# Altium schematic symbol library WR-FPC_1.00mm.SchLib: 105 symbols (part 1 of 2)
Pins are listed as number, name and electrical type; pins without a type are passive.

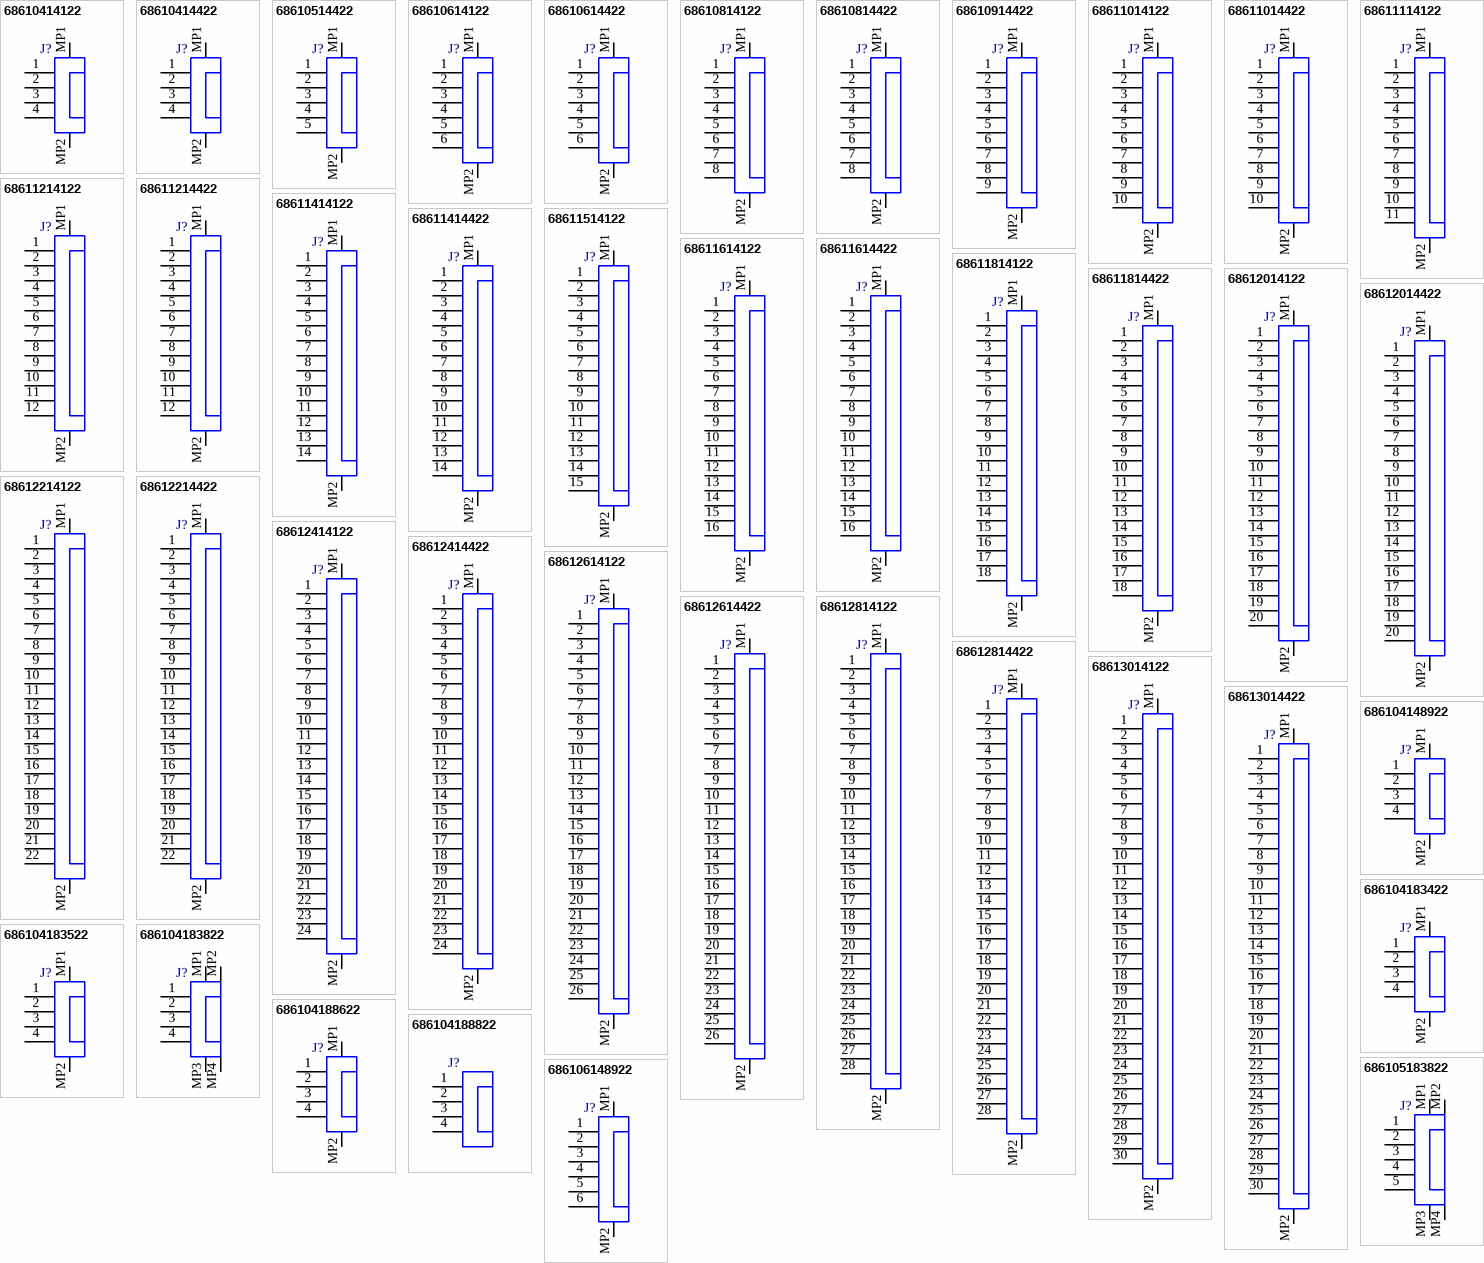
[diagram p0: symbols 68610414122 to 686106148922]

## 68610414122
designator J?
WR-FPC SMT ZIF Horizontal Top Contact, pitch 1mm, 4p; Part Number: 68610414122; Contact Resistance: 20mOhm; Pin Number: 4; Working Voltage: 125VAC; Rated Current: 1A; ComponentLink1Description: Manufacturer; ComponentLink1URL: http://www.we-online.de; ComponentLink2Description: Datasheet; ComponentLink2URL: https://katalog.we-online.com/em/datasheet/68610414122.pdf; Packaging: Tape and Reel; Pitch: 1mm; Published Date: November 2019; Mounting Technology: SMT; Operating Temperature: -25 to +85degC; Length: 11mm; Type: Horizontal; Publisher: Wurth Elektronik
footprint 68610414122
pins: 1, 2, 3, 4, MP1, MP2

## 68610414422
designator J?
WR-FPC SMT ZIF Horizontal Bottom Contact, pitch 1mm, 4p; Part Number: 68610414422; Contact Resistance: 20mOhm; Pin Number: 4; Working Voltage: 125VAC; Rated Current: 1A; ComponentLink1Description: Manufacturer; ComponentLink1URL: http://www.we-online.de; ComponentLink2Description: Datasheet; ComponentLink2URL: https://katalog.we-online.com/em/datasheet/68610414422.pdf; Packaging: Tape and Reel; Pitch: 1mm; Published Date: November 2019; Mounting Technology: SMT; Operating Temperature: -25 to +85degC; Length: 11mm; Type: Horizontal; Publisher: Wurth Elektronik
footprint 68610414422
pins: 1, 2, 3, 4, MP1, MP2

## 68610514422
designator J?
WR-FPC SMT ZIF Horizontal Bottom Contact, pitch 1mm, 5p; Part Number: 68610514422; Contact Resistance: 20mOhm; Pin Number: 5; Working Voltage: 125VAC; Rated Current: 1A; ComponentLink1Description: Manufacturer; ComponentLink1URL: http://www.we-online.de; ComponentLink2Description: Datasheet; ComponentLink2URL: https://katalog.we-online.com/em/datasheet/68610514422.pdf; Packaging: Tape and Reel; Pitch: 1mm; Published Date: November 2019; Mounting Technology: SMT; Operating Temperature: -25 to +85degC; Length: 12mm; Type: Horizontal; Publisher: Wurth Elektronik
footprint 68610514422
pins: 1, 2, 3, 4, 5, MP1, MP2

## 68610614122
designator J?
WR-FPC SMT ZIF Horizontal Top Contact, pitch 1mm, 6p; Part Number: 68610614122; Contact Resistance: 20mOhm; Pin Number: 6; Working Voltage: 125VAC; Rated Current: 1A; ComponentLink1Description: Manufacturer; ComponentLink1URL: http://www.we-online.de; ComponentLink2Description: Datasheet; ComponentLink2URL: https://katalog.we-online.com/em/datasheet/68610614122.pdf; Packaging: Tape and Reel; Pitch: 1mm; Published Date: November 2019; Mounting Technology: SMT; Operating Temperature: -25 to +85degC; Length: 13mm; Type: Horizontal; Publisher: Wurth Elektronik
footprint 68610614122
pins: 1, 2, 3, 4, 5, 6, MP1, MP2

## 68610614422
designator J?
WR-FPC SMT ZIF Horizontal Bottom Contact, pitch 1mm, 6p; Part Number: 68610614422; Contact Resistance: 20mOhm; Pin Number: 6; Working Voltage: 125VAC; Rated Current: 1A; ComponentLink1Description: Manufacturer; ComponentLink1URL: http://www.we-online.de; ComponentLink2Description: Datasheet; ComponentLink2URL: https://katalog.we-online.com/em/datasheet/68610614422.pdf; Packaging: Tape and Reel; Pitch: 1mm; Published Date: November 2019; Mounting Technology: SMT; Operating Temperature: -25 to +85degC; Length: 13mm; Type: Horizontal; Publisher: Wurth Elektronik
footprint 68610614422
pins: 1, 2, 3, 4, 5, 6, MP1, MP2

## 68610814122
designator J?
WR-FPC SMT ZIF Horizontal Top Contact, pitch 1mm, 8p; Part Number: 68610814122; Contact Resistance: 20mOhm; Pin Number: 8; Working Voltage: 125VAC; Rated Current: 1A; ComponentLink1Description: Manufacturer; ComponentLink1URL: http://www.we-online.de; ComponentLink2Description: Datasheet; ComponentLink2URL: https://katalog.we-online.com/em/datasheet/68610814122.pdf; Packaging: Tape and Reel; Pitch: 1mm; Published Date: November 2019; Mounting Technology: SMT; Operating Temperature: -25 to +85degC; Length: 15mm; Type: Horizontal; Publisher: Wurth Elektronik
footprint 68610814122
pins: 1, 2, 3, 4, 5, 6, 7, 8, MP1, MP2

## 68610814422
designator J?
WR-FPC SMT ZIF Horizontal Bottom Contact, pitch 1mm, 8p; Part Number: 68610814422; Contact Resistance: 20mOhm; Pin Number: 8; Working Voltage: 125VAC; Rated Current: 1A; ComponentLink1Description: Manufacturer; ComponentLink1URL: http://www.we-online.de; ComponentLink2Description: Datasheet; ComponentLink2URL: https://katalog.we-online.com/em/datasheet/68610814422.pdf; Packaging: Tape and Reel; Pitch: 1mm; Published Date: November 2019; Mounting Technology: SMT; Operating Temperature: -25 to +85degC; Length: 15mm; Type: Horizontal; Publisher: Wurth Elektronik
footprint 68610814422
pins: 1, 2, 3, 4, 5, 6, 7, 8, MP1, MP2

## 68610914422
designator J?
WR-FPC SMT ZIF Horizontal Bottom Contact, pitch 1mm, 9p; Part Number: 68610914422; Contact Resistance: 20mOhm; Pin Number: 9; Working Voltage: 125VAC; Rated Current: 1A; ComponentLink1Description: Manufacturer; ComponentLink1URL: http://www.we-online.de; ComponentLink2Description: Datasheet; ComponentLink2URL: https://katalog.we-online.com/em/datasheet/68610914422.pdf; Packaging: Tape and Reel; Pitch: 1mm; Published Date: November 2019; Mounting Technology: SMT; Operating Temperature: -25 to +85degC; Length: 16mm; Type: Horizontal; Publisher: Wurth Elektronik
footprint 68610914422
pins: 1, 2, 3, 4, 5, 6, 7, 8, 9, MP1, MP2

## 68611014122
designator J?
WR-FPC SMT ZIF Horizontal Top Contact, pitch 1mm, 10p; Part Number: 68611014122; Contact Resistance: 20mOhm; Pin Number: 10; Working Voltage: 125VAC; Rated Current: 1A; ComponentLink1Description: Manufacturer; ComponentLink1URL: http://www.we-online.de; ComponentLink2Description: Datasheet; ComponentLink2URL: https://katalog.we-online.com/em/datasheet/68611014122.pdf; Packaging: Tape and Reel; Pitch: 1mm; Published Date: November 2019; Mounting Technology: SMT; Operating Temperature: -25 to +85degC; Length: 17mm; Type: Horizontal; Publisher: Wurth Elektronik
footprint 68611014122
pins: 1, 2, 3, 4, 5, 6, 7, 8, 9, 10, MP1, MP2

## 68611014422
designator J?
WR-FPC SMT ZIF Horizontal Bottom Contact, pitch 1mm, 10p; Part Number: 68611014422; Contact Resistance: 20mOhm; Pin Number: 10; Working Voltage: 125VAC; Rated Current: 1A; ComponentLink1Description: Manufacturer; ComponentLink1URL: http://www.we-online.de; ComponentLink2Description: Datasheet; ComponentLink2URL: https://katalog.we-online.com/em/datasheet/68611014422.pdf; Packaging: Tape and Reel; Pitch: 1mm; Published Date: November 2019; Mounting Technology: SMT; Operating Temperature: -25 to +85degC; Length: 17mm; Type: Horizontal; Publisher: Wurth Elektronik
footprint 68611014422
pins: 1, 2, 3, 4, 5, 6, 7, 8, 9, 10, MP1, MP2

## 68611114122
designator J?
WR-FPC SMT ZIF Horizontal Top Contact, pitch 1mm, 11p; Part Number: 68611114122; Contact Resistance: 20mOhm; Pin Number: 11; Working Voltage: 125VAC; Rated Current: 1A; ComponentLink1Description: Manufacturer; ComponentLink1URL: http://www.we-online.de; ComponentLink2Description: Datasheet; ComponentLink2URL: https://katalog.we-online.com/em/datasheet/68611114122.pdf; Packaging: Tape and Reel; Pitch: 1mm; Published Date: November 2019; Mounting Technology: SMT; Operating Temperature: -25 to +85degC; Length: 18mm; Type: Horizontal; Publisher: Wurth Elektronik
footprint 68611114122
pins: 1, 2, 3, 4, 5, 6, 7, 8, 9, 10, 11, MP1, MP2

## 68611214122
designator J?
WR-FPC SMT ZIF Horizontal Top Contact, pitch 1mm, 12p; Part Number: 68611214122; Contact Resistance: 20mOhm; Pin Number: 12; Working Voltage: 125VAC; Rated Current: 1A; ComponentLink1Description: Manufacturer; ComponentLink1URL: http://www.we-online.de; ComponentLink2Description: Datasheet; ComponentLink2URL: https://katalog.we-online.com/em/datasheet/68611214122.pdf; Packaging: Tape and Reel; Pitch: 1mm; Published Date: November 2019; Mounting Technology: SMT; Operating Temperature: -25 to +85degC; Length: 19mm; Type: Horizontal; Publisher: Wurth Elektronik
footprint 68611214122
pins: 1, 2, 3, 4, 5, 6, 7, 8, 9, 10, 11, 12, MP1, MP2

## 68611214422
designator J?
WR-FPC SMT ZIF Horizontal Bottom Contact, pitch 1mm, 12p; Part Number: 68611214422; Contact Resistance: 20mOhm; Pin Number: 12; Working Voltage: 125VAC; Rated Current: 1A; ComponentLink1Description: Manufacturer; ComponentLink1URL: http://www.we-online.de; ComponentLink2Description: Datasheet; ComponentLink2URL: https://katalog.we-online.com/em/datasheet/68611214422.pdf; Packaging: Tape and Reel; Pitch: 1mm; Published Date: November 2019; Mounting Technology: SMT; Operating Temperature: -25 to +85degC; Length: 19mm; Type: Horizontal; Publisher: Wurth Elektronik
footprint 68611214422
pins: 1, 2, 3, 4, 5, 6, 7, 8, 9, 10, 11, 12, MP1, MP2

## 68611414122
designator J?
WR-FPC SMT ZIF Horizontal Top Contact, pitch 1mm, 14p; Part Number: 68611414122; Contact Resistance: 20mOhm; Pin Number: 14; Working Voltage: 125VAC; Rated Current: 1A; ComponentLink1Description: Manufacturer; ComponentLink1URL: http://www.we-online.de; ComponentLink2Description: Datasheet; ComponentLink2URL: https://katalog.we-online.com/em/datasheet/68611414122.pdf; Packaging: Tape and Reel; Pitch: 1mm; Published Date: November 2019; Mounting Technology: SMT; Operating Temperature: -25 to +85degC; Length: 21mm; Type: Horizontal; Publisher: Wurth Elektronik
footprint 68611414122
pins: 1, 2, 3, 4, 5, 6, 7, 8, 9, 10, 11, 12, 13, 14, MP1, MP2

## 68611414422
designator J?
WR-FPC SMT ZIF Horizontal Bottom Contact, pitch 1mm, 14p; Part Number: 68611414422; Contact Resistance: 20mOhm; Pin Number: 14; Working Voltage: 125VAC; Rated Current: 1A; ComponentLink1Description: Manufacturer; ComponentLink1URL: http://www.we-online.de; ComponentLink2Description: Datasheet; ComponentLink2URL: https://katalog.we-online.com/em/datasheet/68611414422.pdf; Packaging: Tape and Reel; Pitch: 1mm; Published Date: November 2019; Mounting Technology: SMT; Operating Temperature: -25 to +85degC; Length: 21mm; Type: Horizontal; Publisher: Wurth Elektronik
footprint 68611414422
pins: 1, 2, 3, 4, 5, 6, 7, 8, 9, 10, 11, 12, 13, 14, MP1, MP2

## 68611514122
designator J?
WR-FPC SMT ZIF Horizontal Top Contact, pitch 1mm, 15p; Part Number: 68611514122; Contact Resistance: 20mOhm; Pin Number: 15; Working Voltage: 125VAC; Rated Current: 1A; ComponentLink1Description: Manufacturer; ComponentLink1URL: http://www.we-online.de; ComponentLink2Description: Datasheet; ComponentLink2URL: https://katalog.we-online.com/em/datasheet/68611514122.pdf; Packaging: Tape and Reel; Pitch: 1mm; Published Date: November 2019; Mounting Technology: SMT; Operating Temperature: -25 to +85degC; Length: 22mm; Type: Horizontal; Publisher: Wurth Elektronik
footprint 68611514122
pins: 1, 2, 3, 4, 5, 6, 7, 8, 9, 10, 11, 12, 13, 14, 15, MP1, MP2

## 68611614122
designator J?
WR-FPC SMT ZIF Horizontal Top Contact, pitch 1mm, 16p; Part Number: 68611614122; Contact Resistance: 20mOhm; Pin Number: 16; Working Voltage: 125VAC; Rated Current: 1A; ComponentLink1Description: Manufacturer; ComponentLink1URL: http://www.we-online.de; ComponentLink2Description: Datasheet; ComponentLink2URL: https://katalog.we-online.com/em/datasheet/68611614122.pdf; Packaging: Tape and Reel; Pitch: 1mm; Published Date: November 2019; Mounting Technology: SMT; Operating Temperature: -25 to +85degC; Length: 23mm; Type: Horizontal; Publisher: Wurth Elektronik
footprint 68611614122
pins: 1, 2, 3, 4, 5, 6, 7, 8, 9, 10, 11, 12, 13, 14, 15, 16, MP1, MP2

## 68611614422
designator J?
WR-FPC SMT ZIF Horizontal Bottom Contact, pitch 1mm, 16p; Part Number: 68611614422; Contact Resistance: 20mOhm; Pin Number: 16; Working Voltage: 125VAC; Rated Current: 1A; ComponentLink1Description: Manufacturer; ComponentLink1URL: http://www.we-online.de; ComponentLink2Description: Datasheet; ComponentLink2URL: https://katalog.we-online.com/em/datasheet/68611614422.pdf; Packaging: Tape and Reel; Pitch: 1mm; Published Date: November 2019; Mounting Technology: SMT; Operating Temperature: -25 to +85degC; Length: 23mm; Type: Horizontal; Publisher: Wurth Elektronik
footprint 68611614422
pins: 1, 2, 3, 4, 5, 6, 7, 8, 9, 10, 11, 12, 13, 14, 15, 16, MP1, MP2

## 68611814122
designator J?
WR-FPC SMT ZIF Horizontal Top Contact, pitch 1mm, 18p; Part Number: 68611814122; Contact Resistance: 20mOhm; Pin Number: 18; Working Voltage: 125VAC; Rated Current: 1A; ComponentLink1Description: Manufacturer; ComponentLink1URL: http://www.we-online.de; ComponentLink2Description: Datasheet; ComponentLink2URL: https://katalog.we-online.com/em/datasheet/68611814122.pdf; Packaging: Tape and Reel; Pitch: 1mm; Published Date: November 2019; Mounting Technology: SMT; Operating Temperature: -25 to +85degC; Length: 25mm; Type: Horizontal; Publisher: Wurth Elektronik
footprint 68611814122
pins: 1, 2, 3, 4, 5, 6, 7, 8, 9, 10, 11, 12, 13, 14, 15, 16, 17, 18, MP1, MP2

## 68611814422
designator J?
WR-FPC SMT ZIF Horizontal Bottom Contact, pitch 1mm, 18p; Part Number: 68611814422; Contact Resistance: 20mOhm; Pin Number: 18; Working Voltage: 125VAC; Rated Current: 1A; ComponentLink1Description: Manufacturer; ComponentLink1URL: http://www.we-online.de; ComponentLink2Description: Datasheet; ComponentLink2URL: https://katalog.we-online.com/em/datasheet/68611814422.pdf; Packaging: Tape and Reel; Pitch: 1mm; Published Date: November 2019; Mounting Technology: SMT; Operating Temperature: -25 to +85degC; Length: 25mm; Type: Horizontal; Publisher: Wurth Elektronik
footprint 68611814422
pins: 1, 2, 3, 4, 5, 6, 7, 8, 9, 10, 11, 12, 13, 14, 15, 16, 17, 18, MP1, MP2

## 68612014122
designator J?
WR-FPC SMT ZIF Horizontal Top Contact, pitch 1mm, 20p; Part Number: 68612014122; Contact Resistance: 20mOhm; Pin Number: 20; Working Voltage: 125VAC; Rated Current: 1A; ComponentLink1Description: Manufacturer; ComponentLink1URL: http://www.we-online.de; ComponentLink2Description: Datasheet; ComponentLink2URL: https://katalog.we-online.com/em/datasheet/68612014122.pdf; Packaging: Tape and Reel; Pitch: 1mm; Published Date: November 2019; Mounting Technology: SMT; Operating Temperature: -25 to +85degC; Length: 27mm; Type: Horizontal; Publisher: Wurth Elektronik
footprint 68612014122
pins: 1, 2, 3, 4, 5, 6, 7, 8, 9, 10, 11, 12, 13, 14, 15, 16, 17, 18, 19, 20, MP1, MP2

## 68612014422
designator J?
WR-FPC SMT ZIF Horizontal Bottom Contact, pitch 1mm, 20p; Part Number: 68612014422; Contact Resistance: 20mOhm; Pin Number: 20; Working Voltage: 125VAC; Rated Current: 1A; ComponentLink1Description: Manufacturer; ComponentLink1URL: http://www.we-online.de; ComponentLink2Description: Datasheet; ComponentLink2URL: https://katalog.we-online.com/em/datasheet/68612014422.pdf; Packaging: Tape and Reel; Pitch: 1mm; Published Date: November 2019; Mounting Technology: SMT; Operating Temperature: -25 to +85degC; Length: 27mm; Type: Horizontal; Publisher: Wurth Elektronik
footprint 68612014422
pins: 1, 2, 3, 4, 5, 6, 7, 8, 9, 10, 11, 12, 13, 14, 15, 16, 17, 18, 19, 20, MP1, MP2

## 68612214122
designator J?
WR-FPC SMT ZIF Horizontal Top Contact, pitch 1mm, 22p; Part Number: 68612214122; Contact Resistance: 20mOhm; Pin Number: 22; Working Voltage: 125VAC; Rated Current: 1A; ComponentLink1Description: Manufacturer; ComponentLink1URL: http://www.we-online.de; ComponentLink2Description: Datasheet; ComponentLink2URL: https://katalog.we-online.com/em/datasheet/68612214122.pdf; Packaging: Tape and Reel; Pitch: 1mm; Published Date: November 2019; Mounting Technology: SMT; Operating Temperature: -25 to +85degC; Length: 29mm; Type: Horizontal; Publisher: Wurth Elektronik
footprint 68612214122
pins: 1, 2, 3, 4, 5, 6, 7, 8, 9, 10, 11, 12, 13, 14, 15, 16, 17, 18, 19, 20, 21, 22, MP1, MP2

## 68612214422
designator J?
WR-FPC SMT ZIF Horizontal Bottom Contact, pitch 1mm, 22p; Part Number: 68612214422; Contact Resistance: 20mOhm; Pin Number: 22; Working Voltage: 125VAC; Rated Current: 1A; ComponentLink1Description: Manufacturer; ComponentLink1URL: http://www.we-online.de; ComponentLink2Description: Datasheet; ComponentLink2URL: https://katalog.we-online.com/em/datasheet/68612214422.pdf; Packaging: Tape and Reel; Pitch: 1mm; Published Date: November 2019; Mounting Technology: SMT; Operating Temperature: -25 to +85degC; Length: 29mm; Type: Horizontal; Publisher: Wurth Elektronik
footprint 68612214422
pins: 1, 2, 3, 4, 5, 6, 7, 8, 9, 10, 11, 12, 13, 14, 15, 16, 17, 18, 19, 20, 21, 22, MP1, MP2

## 68612414122
designator J?
WR-FPC SMT ZIF Horizontal Top Contact, pitch 1mm, 24p; Part Number: 68612414122; Contact Resistance: 20mOhm; Pin Number: 24; Working Voltage: 125VAC; Rated Current: 1A; ComponentLink1Description: Manufacturer; ComponentLink1URL: http://www.we-online.de; ComponentLink2Description: Datasheet; ComponentLink2URL: https://katalog.we-online.com/em/datasheet/68612414122.pdf; Packaging: Tape and Reel; Pitch: 1mm; Published Date: November 2019; Mounting Technology: SMT; Operating Temperature: -25 to +85degC; Length: 31mm; Type: Horizontal; Publisher: Wurth Elektronik
footprint 68612414122
pins: 1, 2, 3, 4, 5, 6, 7, 8, 9, 10, 11, 12, 13, 14, 15, 16, 17, 18, 19, 20, 21, 22, 23, 24, MP1, MP2

## 68612414422
designator J?
WR-FPC SMT ZIF Horizontal Bottom Contact, pitch 1mm, 24p; Part Number: 68612414422; Contact Resistance: 20mOhm; Pin Number: 24; Working Voltage: 125VAC; Rated Current: 1A; ComponentLink1Description: Manufacturer; ComponentLink1URL: http://www.we-online.de; ComponentLink2Description: Datasheet; ComponentLink2URL: https://katalog.we-online.com/em/datasheet/68612414422.pdf; Packaging: Tape and Reel; Pitch: 1mm; Published Date: November 2019; Mounting Technology: SMT; Operating Temperature: -25 to +85degC; Length: 31mm; Type: Horizontal; Publisher: Wurth Elektronik
footprint 68612414422
pins: 1, 2, 3, 4, 5, 6, 7, 8, 9, 10, 11, 12, 13, 14, 15, 16, 17, 18, 19, 20, 21, 22, 23, 24, MP1, MP2

## 68612614122
designator J?
WR-FPC SMT ZIF Horizontal Top Contact, pitch 1mm, 26p; Part Number: 68612614122; Contact Resistance: 20mOhm; Pin Number: 26; Working Voltage: 125VAC; Rated Current: 1A; ComponentLink1Description: Manufacturer; ComponentLink1URL: http://www.we-online.de; ComponentLink2Description: Datasheet; ComponentLink2URL: https://katalog.we-online.com/em/datasheet/68612614122.pdf; Packaging: Tape and Reel; Pitch: 1mm; Published Date: November 2019; Mounting Technology: SMT; Operating Temperature: -25 to +85degC; Length: 33mm; Type: Horizontal; Publisher: Wurth Elektronik
footprint 68612614122
pins: 1, 2, 3, 4, 5, 6, 7, 8, 9, 10, 11, 12, 13, 14, 15, 16, 17, 18, 19, 20, 21, 22, 23, 24, 25, 26, MP1, MP2

## 68612614422
designator J?
WR-FPC SMT ZIF Horizontal Bottom Contact, pitch 1mm, 26p; Part Number: 68612614422; Contact Resistance: 20mOhm; Pin Number: 26; Working Voltage: 125VAC; Rated Current: 1A; ComponentLink1Description: Manufacturer; ComponentLink1URL: http://www.we-online.de; ComponentLink2Description: Datasheet; ComponentLink2URL: https://katalog.we-online.com/em/datasheet/68612614422.pdf; Packaging: Tape and Reel; Pitch: 1mm; Published Date: November 2019; Mounting Technology: SMT; Operating Temperature: -25 to +85degC; Length: 33mm; Type: Horizontal; Publisher: Wurth Elektronik
footprint 68612614422
pins: 1, 2, 3, 4, 5, 6, 7, 8, 9, 10, 11, 12, 13, 14, 15, 16, 17, 18, 19, 20, 21, 22, 23, 24, 25, 26, MP1, MP2

## 68612814122
designator J?
WR-FPC SMT ZIF Horizontal Top Contact, pitch 1mm, 28p; Part Number: 68612814122; Contact Resistance: 20mOhm; Pin Number: 28; Working Voltage: 125VAC; Rated Current: 1A; ComponentLink1Description: Manufacturer; ComponentLink1URL: http://www.we-online.de; ComponentLink2Description: Datasheet; ComponentLink2URL: https://katalog.we-online.com/em/datasheet/68612814122.pdf; Packaging: Tape and Reel; Pitch: 1mm; Published Date: November 2019; Mounting Technology: SMT; Operating Temperature: -25 to +85degC; Length: 35mm; Type: Horizontal; Publisher: Wurth Elektronik
footprint 68612814122
pins: 1, 2, 3, 4, 5, 6, 7, 8, 9, 10, 11, 12, 13, 14, 15, 16, 17, 18, 19, 20, 21, 22, 23, 24, 25, 26, 27, 28, MP1, MP2

## 68612814422
designator J?
WR-FPC SMT ZIF Horizontal Bottom Contact, pitch 1mm, 28p; Part Number: 68612814422; Contact Resistance: 20mOhm; Pin Number: 28; Working Voltage: 125VAC; Rated Current: 1A; ComponentLink1Description: Manufacturer; ComponentLink1URL: http://www.we-online.de; ComponentLink2Description: Datasheet; ComponentLink2URL: https://katalog.we-online.com/em/datasheet/68612814422.pdf; Packaging: Tape and Reel; Pitch: 1mm; Published Date: November 2019; Mounting Technology: SMT; Operating Temperature: -25 to +85degC; Length: 35mm; Type: Horizontal; Publisher: Wurth Elektronik
footprint 68612814422
pins: 1, 2, 3, 4, 5, 6, 7, 8, 9, 10, 11, 12, 13, 14, 15, 16, 17, 18, 19, 20, 21, 22, 23, 24, 25, 26, 27, 28, MP1, MP2

## 68613014122
designator J?
WR-FPC SMT ZIF Horizontal Top Contact, pitch 1mm, 30p; Part Number: 68613014122; Contact Resistance: 20mOhm; Pin Number: 30; Working Voltage: 125VAC; Rated Current: 1A; ComponentLink1Description: Manufacturer; ComponentLink1URL: http://www.we-online.de; ComponentLink2Description: Datasheet; ComponentLink2URL: https://katalog.we-online.com/em/datasheet/68613014122.pdf; Packaging: Tape and Reel; Pitch: 1mm; Published Date: November 2019; Mounting Technology: SMT; Operating Temperature: -25 to +85degC; Length: 37mm; Type: Horizontal; Publisher: Wurth Elektronik
footprint 68613014122
pins: 1, 2, 3, 4, 5, 6, 7, 8, 9, 10, 11, 12, 13, 14, 15, 16, 17, 18, 19, 20, 21, 22, 23, 24, 25, 26, 27, 28, 29, 30, MP1, MP2

## 68613014422
designator J?
WR-FPC SMT ZIF Horizontal Bottom Contact, pitch 1mm, 30p; Part Number: 68613014422; Contact Resistance: 20mOhm; Pin Number: 30; Working Voltage: 125VAC; Rated Current: 1A; ComponentLink1Description: Manufacturer; ComponentLink1URL: http://www.we-online.de; ComponentLink2Description: Datasheet; ComponentLink2URL: https://katalog.we-online.com/em/datasheet/68613014422.pdf; Packaging: Tape and Reel; Pitch: 1mm; Published Date: November 2019; Mounting Technology: SMT; Operating Temperature: -25 to +85degC; Length: 37mm; Type: Horizontal; Publisher: Wurth Elektronik
footprint 68613014422
pins: 1, 2, 3, 4, 5, 6, 7, 8, 9, 10, 11, 12, 13, 14, 15, 16, 17, 18, 19, 20, 21, 22, 23, 24, 25, 26, 27, 28, 29, 30, MP1, MP2

## 686104148922
designator J?
WR-FPC SMT ZIF Horizontal Bottom Contact Hinge Type, pitch 1mm, 4p; Part Number: 686104148922; Contact Resistance: 50mOhm; Pin Number: 4; Working Voltage: 100VAC; Rated Current: 1A; ComponentLink1Description: Manufacturer; ComponentLink1URL: http://www.we-online.de; ComponentLink2Description: Datasheet; ComponentLink2URL: https://katalog.we-online.com/em/datasheet/686104148922.pdf; Packaging: Tape and Reel; Pitch: 1mm; Published Date: November 2019; Mounting Technology: SMT; Operating Temperature: -25 to +85degC; Length: 8.6mm; Type: Horizontal; Publisher: Wurth Elektronik
footprint 686104148922
pins: 1, 2, 3, 4, MP1, MP2

## 686104183422
designator J?
WR-FPC SMT ZIF Horizontal Top Contact Low Profile, pitch 1mm, 4p; Part Number: 686104183422; Contact Resistance: 30mOhm; Pin Number: 4; Working Voltage: 50VAC; Rated Current: 0.8A; ComponentLink1Description: Manufacturer; ComponentLink1URL: http://www.we-online.de; ComponentLink2Description: Datasheet; ComponentLink2URL: https://katalog.we-online.com/em/datasheet/686104183422.pdf; Packaging: Tape and Reel; Pitch: 1mm; Published Date: November 2019; Mounting Technology: SMT; Operating Temperature: -25 to +85degC; Length: 10.2mm; Type: Horizontal; Publisher: Wurth Elektronik
footprint 686104183422
pins: 1, 2, 3, 4, MP1, MP2

## 686104183522
designator J?
WR-FPC SMT ZIF Horizontal Bottom Contact Low Profile, pitch 1mm, 4p; Part Number: 686104183522; Contact Resistance: 30mOhm; Pin Number: 4; Working Voltage: 50VAC; Rated Current: 0.8A; ComponentLink1Description: Manufacturer; ComponentLink1URL: http://www.we-online.de; ComponentLink2Description: Datasheet; ComponentLink2URL: https://katalog.we-online.com/em/datasheet/686104183522.pdf; Packaging: Tape and Reel; Pitch: 1mm; Published Date: November 2019; Mounting Technology: SMT; Operating Temperature: -25 to +85degC; Length: 10.2mm; Type: Horizontal; Publisher: Wurth Elektronik
footprint 686104183522
pins: 1, 2, 3, 4, MP1, MP2

## 686104183822
designator J?
WR-FPC SMT ZIF Vertical Type A, pitch 1mm, 4p; Part Number: 686104183822; Contact Resistance: 30mOhm; Pin Number: 4; Working Voltage: 125VAC; Rated Current: 1A; ComponentLink1Description: Manufacturer; ComponentLink1URL: http://www.we-online.de; ComponentLink2Description: Datasheet; ComponentLink2URL: https://katalog.we-online.com/em/datasheet/686104183822.pdf; Packaging: Tape and Reel; Pitch: 1mm; Published Date: November 2019; Mounting Technology: SMT; Operating Temperature: -25 to +85degC; Length: 10.8mm; Type: Vertical; Publisher: Wurth Elektronik
footprint 686104183822
pins: 1, 2, 3, 4, MP1, MP2, MP3, MP4

## 686104188622
designator J?
WR-FPC SMT LIF Horizontal Top Contact, pitch 1mm, 4p; Part Number: 686104188622; Contact Resistance: 30mOhm; Pin Number: 4; Working Voltage: 125VAC; Rated Current: 1A; ComponentLink1Description: Manufacturer; ComponentLink1URL: http://www.we-online.de; ComponentLink2Description: Datasheet; ComponentLink2URL: https://katalog.we-online.com/em/datasheet/686104188622.pdf; Packaging: Tape and Reel; Pitch: 1mm; Published Date: November 2019; Mounting Technology: SMT; Operating Temperature: -25 to +85degC; Length: 7.8mm; Type: Horizontal; Publisher: Wurth Elektronik
footprint 686104188622
pins: 1, 2, 3, 4, MP1, MP2

## 686104188822
designator J?
WR-FPC SMT LIF Vertical Type A, pitch 1mm, 4p; Part Number: 686104188822; Contact Resistance: 30mOhm; Pin Number: 4; Working Voltage: 125VAC; Rated Current: 1A; ComponentLink1Description: Manufacturer; ComponentLink1URL: http://www.we-online.de; ComponentLink2Description: Datasheet; ComponentLink2URL: https://katalog.we-online.com/em/datasheet/686104188822.pdf; Packaging: Tape and Reel; Pitch: 1mm; Published Date: November 2019; Mounting Technology: SMT; Operating Temperature: -25 to +85degC; Length: 7mm; Type: Vertical; Publisher: Wurth Elektronik
footprint 686104188822
pins: 1, 2, 3, 4

## 686105183822
designator J?
WR-FPC SMT ZIF Vertical Type A, pitch 1mm, 5p; Part Number: 686105183822; Contact Resistance: 30mOhm; Pin Number: 5; Working Voltage: 125VAC; Rated Current: 1A; ComponentLink1Description: Manufacturer; ComponentLink1URL: http://www.we-online.de; ComponentLink2Description: Datasheet; ComponentLink2URL: https://katalog.we-online.com/em/datasheet/686105183822.pdf; Packaging: Tape and Reel; Pitch: 1mm; Published Date: November 2019; Mounting Technology: SMT; Operating Temperature: -25 to +85degC; Length: 11.8mm; Type: Vertical; Publisher: Wurth Elektronik
footprint 686105183822
pins: 1, 2, 3, 4, 5, MP1, MP2, MP3, MP4

## 686106148922
designator J?
WR-FPC SMT ZIF Horizontal Bottom Contact Hinge Type, pitch 1mm, 6p; Part Number: 686106148922; Contact Resistance: 50mOhm; Pin Number: 6; Working Voltage: 100VAC; Rated Current: 1A; ComponentLink1Description: Manufacturer; ComponentLink1URL: http://www.we-online.de; ComponentLink2Description: Datasheet; ComponentLink2URL: https://katalog.we-online.com/em/datasheet/686106148922.pdf; Packaging: Tape and Reel; Pitch: 1mm; Published Date: November 2019; Mounting Technology: SMT; Operating Temperature: -25 to +85degC; Length: 10.6mm; Type: Horizontal; Publisher: Wurth Elektronik
footprint 686106148922
pins: 1, 2, 3, 4, 5, 6, MP1, MP2

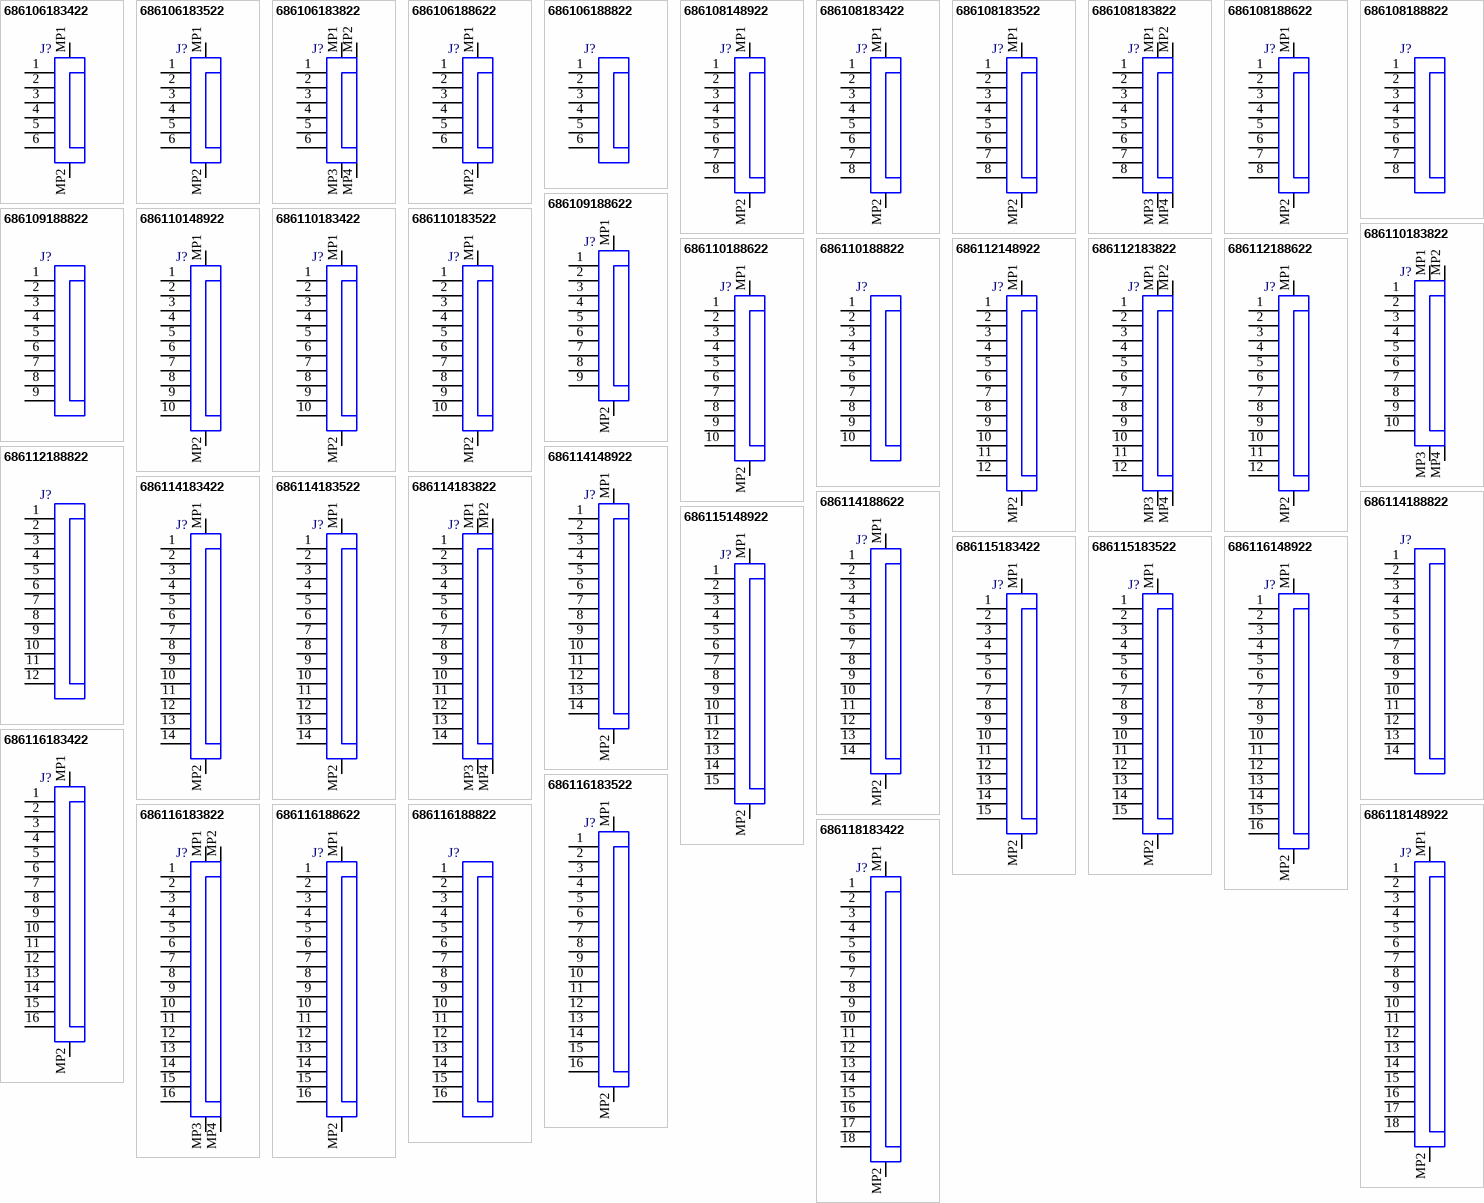
[diagram p1: symbols 686106183422 to 686118183422]

## 686106183422
designator J?
WR-FPC SMT ZIF Horizontal Top Contact Low Profile, pitch 1mm, 6p; Part Number: 686106183422; Contact Resistance: 30mOhm; Pin Number: 6; Working Voltage: 50VAC; Rated Current: 0.8A; ComponentLink1Description: Manufacturer; ComponentLink1URL: http://www.we-online.de; ComponentLink2Description: Datasheet; ComponentLink2URL: https://katalog.we-online.com/em/datasheet/686106183422.pdf; Packaging: Tape and Reel; Pitch: 1mm; Published Date: November 2019; Mounting Technology: SMT; Operating Temperature: -25 to +85degC; Length: 12.2mm; Type: Horizontal; Publisher: Wurth Elektronik
footprint 686106183422
pins: 1, 2, 3, 4, 5, 6, MP1, MP2

## 686106183522
designator J?
WR-FPC SMT ZIF Horizontal Bottom Contact Low Profile, pitch 1mm, 6p; Part Number: 686106183522; Contact Resistance: 30mOhm; Pin Number: 6; Working Voltage: 50VAC; Rated Current: 0.8A; ComponentLink1Description: Manufacturer; ComponentLink1URL: http://www.we-online.de; ComponentLink2Description: Datasheet; ComponentLink2URL: https://katalog.we-online.com/em/datasheet/686106183522.pdf; Packaging: Tape and Reel; Pitch: 1mm; Published Date: November 2019; Mounting Technology: SMT; Operating Temperature: -25 to +85degC; Length: 12.2mm; Type: Horizontal; Publisher: Wurth Elektronik
footprint 686106183522
pins: 1, 2, 3, 4, 5, 6, MP1, MP2

## 686106183822
designator J?
WR-FPC SMT ZIF Vertical Type A, pitch 1mm, 6p; Part Number: 686106183822; Contact Resistance: 30mOhm; Pin Number: 6; Working Voltage: 125VAC; Rated Current: 1A; ComponentLink1Description: Manufacturer; ComponentLink1URL: http://www.we-online.de; ComponentLink2Description: Datasheet; ComponentLink2URL: https://katalog.we-online.com/em/datasheet/686106183822.pdf; Packaging: Tape and Reel; Pitch: 1mm; Published Date: November 2019; Mounting Technology: SMT; Operating Temperature: -25 to +85degC; Length: 12.8mm; Type: Vertical; Publisher: Wurth Elektronik
footprint 686106183822
pins: 1, 2, 3, 4, 5, 6, MP1, MP2, MP3, MP4

## 686106188622
designator J?
WR-FPC SMT LIF Horizontal Top Contact, pitch 1mm, 6p; Part Number: 686106188622; Contact Resistance: 30mOhm; Pin Number: 6; Working Voltage: 125VAC; Rated Current: 1A; ComponentLink1Description: Manufacturer; ComponentLink1URL: http://www.we-online.de; ComponentLink2Description: Datasheet; ComponentLink2URL: https://katalog.we-online.com/em/datasheet/686106188622.pdf; Packaging: Tape and Reel; Pitch: 1mm; Published Date: November 2019; Mounting Technology: SMT; Operating Temperature: -25 to +85degC; Length: 9.8mm; Type: Horizontal; Publisher: Wurth Elektronik
footprint 686106188622
pins: 1, 2, 3, 4, 5, 6, MP1, MP2

## 686106188822
designator J?
WR-FPC SMT LIF Vertical Type A, pitch 1mm, 6p; Part Number: 686106188822; Contact Resistance: 30mOhm; Pin Number: 6; Working Voltage: 125VAC; Rated Current: 1A; ComponentLink1Description: Manufacturer; ComponentLink1URL: http://www.we-online.de; ComponentLink2Description: Datasheet; ComponentLink2URL: https://katalog.we-online.com/em/datasheet/686106188822.pdf; Packaging: Tape and Reel; Pitch: 1mm; Published Date: November 2019; Mounting Technology: SMT; Operating Temperature: -25 to +85degC; Length: 9mm; Type: Vertical; Publisher: Wurth Elektronik
footprint 686106188822
pins: 1, 2, 3, 4, 5, 6

## 686108148922
designator J?
WR-FPC SMT ZIF Horizontal Bottom Contact Hinge Type, pitch 1mm, 8p; Part Number: 686108148922; Contact Resistance: 50mOhm; Pin Number: 8; Working Voltage: 100VAC; Rated Current: 1A; ComponentLink1Description: Manufacturer; ComponentLink1URL: http://www.we-online.de; ComponentLink2Description: Datasheet; ComponentLink2URL: https://katalog.we-online.com/em/datasheet/686108148922.pdf; Packaging: Tape and Reel; Pitch: 1mm; Published Date: November 2019; Mounting Technology: SMT; Operating Temperature: -25 to +85degC; Length: 12.6mm; Type: Horizontal; Publisher: Wurth Elektronik
footprint 686108148922
pins: 1, 2, 3, 4, 5, 6, 7, 8, MP1, MP2

## 686108183422
designator J?
WR-FPC SMT ZIF Horizontal Top Contact Low Profile, pitch 1mm, 8p; Part Number: 686108183422; Contact Resistance: 30mOhm; Pin Number: 8; Working Voltage: 50VAC; Rated Current: 0.8A; ComponentLink1Description: Manufacturer; ComponentLink1URL: http://www.we-online.de; ComponentLink2Description: Datasheet; ComponentLink2URL: https://katalog.we-online.com/em/datasheet/686108183422.pdf; Packaging: Tape and Reel; Pitch: 1mm; Published Date: November 2019; Mounting Technology: SMT; Operating Temperature: -25 to +85degC; Length: 14.2mm; Type: Horizontal; Publisher: Wurth Elektronik
footprint 686108183422
pins: 1, 2, 3, 4, 5, 6, 7, 8, MP1, MP2

## 686108183522
designator J?
WR-FPC SMT ZIF Horizontal Bottom Contact Low Profile, pitch 1mm, 8p; Part Number: 686108183522; Contact Resistance: 30mOhm; Pin Number: 8; Working Voltage: 50VAC; Rated Current: 0.8A; ComponentLink1Description: Manufacturer; ComponentLink1URL: http://www.we-online.de; ComponentLink2Description: Datasheet; ComponentLink2URL: https://katalog.we-online.com/em/datasheet/686108183522.pdf; Packaging: Tape and Reel; Pitch: 1mm; Published Date: November 2019; Mounting Technology: SMT; Operating Temperature: -25 to +85degC; Length: 14.2mm; Type: Horizontal; Publisher: Wurth Elektronik
footprint 686108183522
pins: 1, 2, 3, 4, 5, 6, 7, 8, MP1, MP2

## 686108183822
designator J?
WR-FPC SMT ZIF Vertical Type A, pitch 1mm, 8p; Part Number: 686108183822; Contact Resistance: 30mOhm; Pin Number: 8; Working Voltage: 125VAC; Rated Current: 1A; ComponentLink1Description: Manufacturer; ComponentLink1URL: http://www.we-online.de; ComponentLink2Description: Datasheet; ComponentLink2URL: https://katalog.we-online.com/em/datasheet/686108183822.pdf; Packaging: Tape and Reel; Pitch: 1mm; Published Date: November 2019; Mounting Technology: SMT; Operating Temperature: -25 to +85degC; Length: 14.8mm; Type: Vertical; Publisher: Wurth Elektronik
footprint 686108183822
pins: 1, 2, 3, 4, 5, 6, 7, 8, MP1, MP2, MP3, MP4

## 686108188622
designator J?
WR-FPC SMT LIF Horizontal Top Contact, pitch 1mm, 8p; Part Number: 686108188622; Contact Resistance: 30mOhm; Pin Number: 8; Working Voltage: 125VAC; Rated Current: 1A; ComponentLink1Description: Manufacturer; ComponentLink1URL: http://www.we-online.de; ComponentLink2Description: Datasheet; ComponentLink2URL: https://katalog.we-online.com/em/datasheet/686108188622.pdf; Packaging: Tape and Reel; Pitch: 1mm; Published Date: November 2019; Mounting Technology: SMT; Operating Temperature: -25 to +85degC; Length: 11.8mm; Type: Horizontal; Publisher: Wurth Elektronik
footprint 686108188622
pins: 1, 2, 3, 4, 5, 6, 7, 8, MP1, MP2

## 686108188822
designator J?
WR-FPC SMT LIF Vertical Type A, pitch 1mm, 8p; Part Number: 686108188822; Contact Resistance: 30mOhm; Pin Number: 8; Working Voltage: 125VAC; Rated Current: 1A; ComponentLink1Description: Manufacturer; ComponentLink1URL: http://www.we-online.de; ComponentLink2Description: Datasheet; ComponentLink2URL: https://katalog.we-online.com/em/datasheet/686108188822.pdf; Packaging: Tape and Reel; Pitch: 1mm; Published Date: November 2019; Mounting Technology: SMT; Operating Temperature: -25 to +85degC; Length: 11mm; Type: Vertical; Publisher: Wurth Elektronik
footprint 686108188822
pins: 1, 2, 3, 4, 5, 6, 7, 8

## 686109188622
designator J?
WR-FPC SMT LIF Horizontal Top Contact, pitch 1mm, 9p; Part Number: 686109188622; Contact Resistance: 30mOhm; Pin Number: 9; Working Voltage: 125VAC; Rated Current: 1A; ComponentLink1Description: Manufacturer; ComponentLink1URL: http://www.we-online.de; ComponentLink2Description: Datasheet; ComponentLink2URL: https://katalog.we-online.com/em/datasheet/686109188622.pdf; Packaging: Tape and Reel; Pitch: 1mm; Published Date: November 2019; Mounting Technology: SMT; Operating Temperature: -25 to +85degC; Length: 12.8mm; Type: Horizontal; Publisher: Wurth Elektronik
footprint 686109188622
pins: 1, 2, 3, 4, 5, 6, 7, 8, 9, MP1, MP2

## 686109188822
designator J?
WR-FPC SMT LIF Vertical Type A, pitch 1mm, 9p; Part Number: 686109188822; Contact Resistance: 30mOhm; Pin Number: 9; Working Voltage: 125VAC; Rated Current: 1A; ComponentLink1Description: Manufacturer; ComponentLink1URL: http://www.we-online.de; ComponentLink2Description: Datasheet; ComponentLink2URL: https://katalog.we-online.com/em/datasheet/686109188822.pdf; Packaging: Tape and Reel; Pitch: 1mm; Published Date: November 2019; Mounting Technology: SMT; Operating Temperature: -25 to +85degC; Length: 12mm; Type: Vertical; Publisher: Wurth Elektronik
footprint 686109188822
pins: 1, 2, 3, 4, 5, 6, 7, 8, 9

## 686110148922
designator J?
WR-FPC SMT ZIF Horizontal Bottom Contact Hinge Type, pitch 1mm, 10p; Part Number: 686110148922; Contact Resistance: 50mOhm; Pin Number: 10; Working Voltage: 100VAC; Rated Current: 1A; ComponentLink1Description: Manufacturer; ComponentLink1URL: http://www.we-online.de; ComponentLink2Description: Datasheet; ComponentLink2URL: https://katalog.we-online.com/em/datasheet/686110148922.pdf; Packaging: Tape and Reel; Pitch: 1mm; Published Date: November 2019; Mounting Technology: SMT; Operating Temperature: -25 to +85degC; Length: 14.6mm; Type: Horizontal; Publisher: Wurth Elektronik
footprint 686110148922
pins: 1, 2, 3, 4, 5, 6, 7, 8, 9, 10, MP1, MP2

## 686110183422
designator J?
WR-FPC SMT ZIF Horizontal Top Contact Low Profile, pitch 1mm, 10p; Part Number: 686110183422; Contact Resistance: 30mOhm; Pin Number: 10; Working Voltage: 50VAC; Rated Current: 0.8A; ComponentLink1Description: Manufacturer; ComponentLink1URL: http://www.we-online.de; ComponentLink2Description: Datasheet; ComponentLink2URL: https://katalog.we-online.com/em/datasheet/686110183422.pdf; Packaging: Tape and Reel; Pitch: 1mm; Published Date: November 2019; Mounting Technology: SMT; Operating Temperature: -25 to +85degC; Length: 16.2mm; Type: Horizontal; Publisher: Wurth Elektronik
footprint 686110183422
pins: 1, 2, 3, 4, 5, 6, 7, 8, 9, 10, MP1, MP2

## 686110183522
designator J?
WR-FPC SMT ZIF Horizontal Bottom Contact Low Profile, pitch 1mm, 10p; Part Number: 686110183522; Contact Resistance: 30mOhm; Pin Number: 10; Working Voltage: 50VAC; Rated Current: 0.8A; ComponentLink1Description: Manufacturer; ComponentLink1URL: http://www.we-online.de; ComponentLink2Description: Datasheet; ComponentLink2URL: https://katalog.we-online.com/em/datasheet/686110183522.pdf; Packaging: Tape and Reel; Pitch: 1mm; Published Date: November 2019; Mounting Technology: SMT; Operating Temperature: -25 to +85degC; Length: 16.2mm; Type: Horizontal; Publisher: Wurth Elektronik
footprint 686110183522
pins: 1, 2, 3, 4, 5, 6, 7, 8, 9, 10, MP1, MP2

## 686110183822
designator J?
WR-FPC SMT ZIF Vertical Type A, pitch 1mm, 10p; Part Number: 686110183822; Contact Resistance: 30mOhm; Pin Number: 10; Working Voltage: 125VAC; Rated Current: 1A; ComponentLink1Description: Manufacturer; ComponentLink1URL: http://www.we-online.de; ComponentLink2Description: Datasheet; ComponentLink2URL: https://katalog.we-online.com/em/datasheet/686110183822.pdf; Packaging: Tape and Reel; Pitch: 1mm; Published Date: November 2019; Mounting Technology: SMT; Operating Temperature: -25 to +85degC; Length: 16.8mm; Type: Vertical; Publisher: Wurth Elektronik
footprint 686110183822
pins: 1, 2, 3, 4, 5, 6, 7, 8, 9, 10, MP1, MP2, MP3, MP4

## 686110188622
designator J?
WR-FPC SMT LIF Horizontal Top Contact, pitch 1mm, 10p; Part Number: 686110188622; Contact Resistance: 30mOhm; Pin Number: 10; Working Voltage: 125VAC; Rated Current: 1A; ComponentLink1Description: Manufacturer; ComponentLink1URL: http://www.we-online.de; ComponentLink2Description: Datasheet; ComponentLink2URL: https://katalog.we-online.com/em/datasheet/686110188622.pdf; Packaging: Tape and Reel; Pitch: 1mm; Published Date: November 2019; Mounting Technology: SMT; Operating Temperature: -25 to +85degC; Length: 13.8mm; Type: Horizontal; Publisher: Wurth Elektronik
footprint 686110188622
pins: 1, 2, 3, 4, 5, 6, 7, 8, 9, 10, MP1, MP2

## 686110188822
designator J?
WR-FPC SMT LIF Vertical Type A, pitch 1mm, 10p; Part Number: 686110188822; Contact Resistance: 30mOhm; Pin Number: 10; Working Voltage: 125VAC; Rated Current: 1A; ComponentLink1Description: Manufacturer; ComponentLink1URL: http://www.we-online.de; ComponentLink2Description: Datasheet; ComponentLink2URL: https://katalog.we-online.com/em/datasheet/686110188822.pdf; Packaging: Tape and Reel; Pitch: 1mm; Published Date: November 2019; Mounting Technology: SMT; Operating Temperature: -25 to +85degC; Length: 13mm; Type: Vertical; Publisher: Wurth Elektronik
footprint 686110188822
pins: 1, 2, 3, 4, 5, 6, 7, 8, 9, 10

## 686112148922
designator J?
WR-FPC SMT ZIF Horizontal Bottom Contact Hinge Type, pitch 1mm, 12p; Part Number: 686112148922; Contact Resistance: 50mOhm; Pin Number: 12; Working Voltage: 100VAC; Rated Current: 1A; ComponentLink1Description: Manufacturer; ComponentLink1URL: http://www.we-online.de; ComponentLink2Description: Datasheet; ComponentLink2URL: https://katalog.we-online.com/em/datasheet/686112148922.pdf; Packaging: Tape and Reel; Pitch: 1mm; Published Date: November 2019; Mounting Technology: SMT; Operating Temperature: -25 to +85degC; Length: 16.6mm; Type: Horizontal; Publisher: Wurth Elektronik
footprint 686112148922
pins: 1, 2, 3, 4, 5, 6, 7, 8, 9, 10, 11, 12, MP1, MP2

## 686112183822
designator J?
WR-FPC SMT ZIF Vertical Type A, pitch 1mm, 12p; Part Number: 686112183822; Contact Resistance: 30mOhm; Pin Number: 12; Working Voltage: 125VAC; Rated Current: 1A; ComponentLink1Description: Manufacturer; ComponentLink1URL: http://www.we-online.de; ComponentLink2Description: Datasheet; ComponentLink2URL: https://katalog.we-online.com/em/datasheet/686112183822.pdf; Packaging: Tape and Reel; Pitch: 1mm; Published Date: November 2019; Mounting Technology: SMT; Operating Temperature: -25 to +85degC; Length: 18.8mm; Type: Vertical; Publisher: Wurth Elektronik
footprint 686112183822
pins: 1, 2, 3, 4, 5, 6, 7, 8, 9, 10, 11, 12, MP1, MP2, MP3, MP4

## 686112188622
designator J?
WR-FPC SMT LIF Horizontal Top Contact, pitch 1mm, 12p; Part Number: 686112188622; Contact Resistance: 30mOhm; Pin Number: 12; Working Voltage: 125VAC; Rated Current: 1A; ComponentLink1Description: Manufacturer; ComponentLink1URL: http://www.we-online.de; ComponentLink2Description: Datasheet; ComponentLink2URL: https://katalog.we-online.com/em/datasheet/686112188622.pdf; Packaging: Tape and Reel; Pitch: 1mm; Published Date: November 2019; Mounting Technology: SMT; Operating Temperature: -25 to +85degC; Length: 15.8mm; Type: Horizontal; Publisher: Wurth Elektronik
footprint 686112188622
pins: 1, 2, 3, 4, 5, 6, 7, 8, 9, 10, 11, 12, MP1, MP2

## 686112188822
designator J?
WR-FPC SMT LIF Vertical Type A, pitch 1mm, 12p; Part Number: 686112188822; Contact Resistance: 30mOhm; Pin Number: 12; Working Voltage: 125VAC; Rated Current: 1A; ComponentLink1Description: Manufacturer; ComponentLink1URL: http://www.we-online.de; ComponentLink2Description: Datasheet; ComponentLink2URL: https://katalog.we-online.com/em/datasheet/686112188822.pdf; Packaging: Tape and Reel; Pitch: 1mm; Published Date: November 2019; Mounting Technology: SMT; Operating Temperature: -25 to +85degC; Length: 15mm; Type: Vertical; Publisher: Wurth Elektronik
footprint 686112188822
pins: 1, 2, 3, 4, 5, 6, 7, 8, 9, 10, 11, 12

## 686114148922
designator J?
WR-FPC SMT ZIF Horizontal Bottom Contact Hinge Type, pitch 1mm, 14p; Part Number: 686114148922; Contact Resistance: 50mOhm; Pin Number: 14; Working Voltage: 100VAC; Rated Current: 1A; ComponentLink1Description: Manufacturer; ComponentLink1URL: http://www.we-online.de; ComponentLink2Description: Datasheet; ComponentLink2URL: https://katalog.we-online.com/em/datasheet/686114148922.pdf; Packaging: Tape and Reel; Pitch: 1mm; Published Date: November 2019; Mounting Technology: SMT; Operating Temperature: -25 to +85degC; Length: 18.6mm; Type: Horizontal; Publisher: Wurth Elektronik
footprint 686114148922
pins: 1, 2, 3, 4, 5, 6, 7, 8, 9, 10, 11, 12, 13, 14, MP1, MP2

## 686114183422
designator J?
WR-FPC SMT ZIF Horizontal Top Contact Low Profile, pitch 1mm, 14p; Part Number: 686114183422; Contact Resistance: 30mOhm; Pin Number: 14; Working Voltage: 50VAC; Rated Current: 0.8A; ComponentLink1Description: Manufacturer; ComponentLink1URL: http://www.we-online.de; ComponentLink2Description: Datasheet; ComponentLink2URL: https://katalog.we-online.com/em/datasheet/686114183422.pdf; Packaging: Tape and Reel; Pitch: 1mm; Published Date: November 2019; Mounting Technology: SMT; Operating Temperature: -25 to +85degC; Length: 20.2mm; Type: Horizontal; Publisher: Wurth Elektronik
footprint 686114183422
pins: 1, 2, 3, 4, 5, 6, 7, 8, 9, 10, 11, 12, 13, 14, MP1, MP2

## 686114183522
designator J?
WR-FPC SMT ZIF Horizontal Bottom Contact Low Profile, pitch 1mm, 14p; Part Number: 686114183522; Contact Resistance: 30mOhm; Pin Number: 14; Working Voltage: 50VAC; Rated Current: 0.8A; ComponentLink1Description: Manufacturer; ComponentLink1URL: http://www.we-online.de; ComponentLink2Description: Datasheet; ComponentLink2URL: https://katalog.we-online.com/em/datasheet/686114183522.pdf; Packaging: Tape and Reel; Pitch: 1mm; Published Date: November 2019; Mounting Technology: SMT; Operating Temperature: -25 to +85degC; Length: 20.2mm; Type: Horizontal; Publisher: Wurth Elektronik
footprint 686114183522
pins: 1, 2, 3, 4, 5, 6, 7, 8, 9, 10, 11, 12, 13, 14, MP1, MP2

## 686114183822
designator J?
WR-FPC SMT ZIF Vertical Type A, pitch 1mm, 14p; Part Number: 686114183822; Contact Resistance: 30mOhm; Pin Number: 14; Working Voltage: 125VAC; Rated Current: 1A; ComponentLink1Description: Manufacturer; ComponentLink1URL: http://www.we-online.de; ComponentLink2Description: Datasheet; ComponentLink2URL: https://katalog.we-online.com/em/datasheet/686114183822.pdf; Packaging: Tape and Reel; Pitch: 1mm; Published Date: November 2019; Mounting Technology: SMT; Operating Temperature: -25 to +85degC; Length: 20.8mm; Type: Vertical; Publisher: Wurth Elektronik
footprint 686114183822
pins: 1, 2, 3, 4, 5, 6, 7, 8, 9, 10, 11, 12, 13, 14, MP1, MP2, MP3, MP4

## 686114188622
designator J?
WR-FPC SMT LIF Horizontal Top Contact, pitch 1mm, 14p; Part Number: 686114188622; Contact Resistance: 30mOhm; Pin Number: 14; Working Voltage: 125VAC; Rated Current: 1A; ComponentLink1Description: Manufacturer; ComponentLink1URL: http://www.we-online.de; ComponentLink2Description: Datasheet; ComponentLink2URL: https://katalog.we-online.com/em/datasheet/686114188622.pdf; Packaging: Tape and Reel; Pitch: 1mm; Published Date: November 2019; Mounting Technology: SMT; Operating Temperature: -25 to +85degC; Length: 17.8mm; Type: Horizontal; Publisher: Wurth Elektronik
footprint 686114188622
pins: 1, 2, 3, 4, 5, 6, 7, 8, 9, 10, 11, 12, 13, 14, MP1, MP2

## 686114188822
designator J?
WR-FPC SMT LIF Vertical Type A, pitch 1mm, 14p; Part Number: 686114188822; Contact Resistance: 30mOhm; Pin Number: 14; Working Voltage: 125VAC; Rated Current: 1A; ComponentLink1Description: Manufacturer; ComponentLink1URL: http://www.we-online.de; ComponentLink2Description: Datasheet; ComponentLink2URL: https://katalog.we-online.com/em/datasheet/686114188822.pdf; Packaging: Tape and Reel; Pitch: 1mm; Published Date: November 2019; Mounting Technology: SMT; Operating Temperature: -25 to +85degC; Length: 17mm; Type: Vertical; Publisher: Wurth Elektronik
footprint 686114188822
pins: 1, 2, 3, 4, 5, 6, 7, 8, 9, 10, 11, 12, 13, 14

## 686115148922
designator J?
WR-FPC SMT ZIF Horizontal Bottom Contact Hinge Type, pitch 1mm, 15p; Part Number: 686115148922; Contact Resistance: 50mOhm; Pin Number: 15; Working Voltage: 100VAC; Rated Current: 1A; ComponentLink1Description: Manufacturer; ComponentLink1URL: http://www.we-online.de; ComponentLink2Description: Datasheet; ComponentLink2URL: https://katalog.we-online.com/em/datasheet/686115148922.pdf; Packaging: Tape and Reel; Pitch: 1mm; Published Date: November 2019; Mounting Technology: SMT; Operating Temperature: -25 to +85degC; Length: 19.6mm; Type: Horizontal; Publisher: Wurth Elektronik
footprint 686115148922
pins: 1, 2, 3, 4, 5, 6, 7, 8, 9, 10, 11, 12, 13, 14, 15, MP1, MP2

## 686115183422
designator J?
WR-FPC SMT ZIF Horizontal Top Contact Low Profile, pitch 1mm, 15p; Part Number: 686115183422; Contact Resistance: 30mOhm; Pin Number: 15; Working Voltage: 50VAC; Rated Current: 0.8A; ComponentLink1Description: Manufacturer; ComponentLink1URL: http://www.we-online.de; ComponentLink2Description: Datasheet; ComponentLink2URL: https://katalog.we-online.com/em/datasheet/686115183422.pdf; Packaging: Tape and Reel; Pitch: 1mm; Published Date: November 2019; Mounting Technology: SMT; Operating Temperature: -25 to +85degC; Length: 21.2mm; Type: Horizontal; Publisher: Wurth Elektronik
footprint 686115183422
pins: 1, 2, 3, 4, 5, 6, 7, 8, 9, 10, 11, 12, 13, 14, 15, MP1, MP2

## 686115183522
designator J?
WR-FPC SMT ZIF Horizontal Bottom Contact Low Profile, pitch 1mm, 15p; Part Number: 686115183522; Contact Resistance: 30mOhm; Pin Number: 15; Working Voltage: 50VAC; Rated Current: 0.8A; ComponentLink1Description: Manufacturer; ComponentLink1URL: http://www.we-online.de; ComponentLink2Description: Datasheet; ComponentLink2URL: https://katalog.we-online.com/em/datasheet/686115183522.pdf; Packaging: Tape and Reel; Pitch: 1mm; Published Date: November 2019; Mounting Technology: SMT; Operating Temperature: -25 to +85degC; Length: 21.2mm; Type: Horizontal; Publisher: Wurth Elektronik
footprint 686115183522
pins: 1, 2, 3, 4, 5, 6, 7, 8, 9, 10, 11, 12, 13, 14, 15, MP1, MP2

## 686116148922
designator J?
WR-FPC SMT ZIF Horizontal Bottom Contact Hinge Type, pitch 1mm, 16p; Part Number: 686116148922; Contact Resistance: 50mOhm; Pin Number: 16; Working Voltage: 100VAC; Rated Current: 1A; ComponentLink1Description: Manufacturer; ComponentLink1URL: http://www.we-online.de; ComponentLink2Description: Datasheet; ComponentLink2URL: https://katalog.we-online.com/em/datasheet/686116148922.pdf; Packaging: Tape and Reel; Pitch: 1mm; Published Date: November 2019; Mounting Technology: SMT; Operating Temperature: -25 to +85degC; Length: 20.6mm; Type: Horizontal; Publisher: Wurth Elektronik
footprint 686116148922
pins: 1, 2, 3, 4, 5, 6, 7, 8, 9, 10, 11, 12, 13, 14, 15, 16, MP1, MP2